# Altium schematic symbol library DIODE_BRIDGE.Schlib: 1 symbol
Pins are listed as number, name and electrical type; pins without a type are passive.

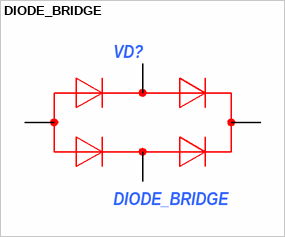
[diagram p0: symbol DIODE_BRIDGE]

## DIODE_BRIDGE
designator VD?
Диодный мост, 1А, 1000В; ManufacturerPartNumber: DF10; ComponentLink1Description: *; ComponentLink1URL: *; ComponentLink2Description: *; ComponentLink2URL: *; Power/Voltage: *; Rem: *; TKE: *; Tolerance: *; TU/GOST: *; Value: *; Корпус: *; Примечание: *; Manufacturer: *; Author: *; Type: *
pins: 1, 2, 3, 4